# Altium schematic symbol library 4-Diode.SchLib: 48 symbols
Pins are listed as number, name and electrical type; pins without a type are passive.

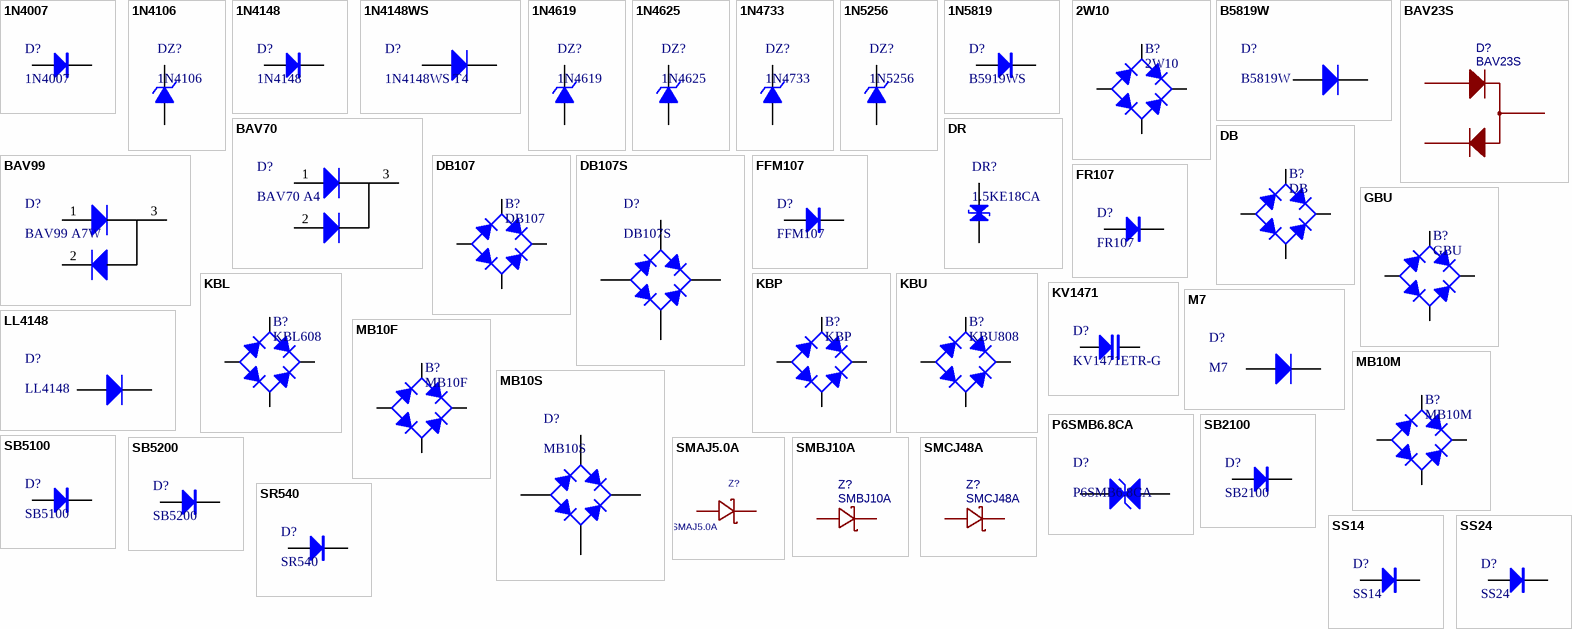
[diagram p0: symbols 1N4007 to SS24]

## 1N4007
designator D?
整流二极管; 版权归属: 源创客; BOM名称: 整流二极管; 学习资源: www.ooocke.com
footprint DO-41 (2.6*9.1mm(直径，脚距）)
footprint SOD-123 (2.7x1.6X1.1mm（长宽高，不包括引脚）)
footprint SMA (4.5x2.6*2.2mm（长宽高，不包括引脚）)
footprint DO-41V (2.6*3.5mm(直径，脚距）)
pins: 1 A, 2 K

## 1N4106
designator DZ?
12V/0.5W稳压管; 版权归属: 源创客; BOM名称: 12V/0.5W稳压管; 学习资源: www.ooocke.com
footprint DO-35 (1.8*6.8mm(直径，脚距）)
footprint DO-213AA (1.5*3.5mm(直径，脚距）)
footprint DO-35V (1.8*2.5mm(直径，脚距）)
pins: 1 A, 2 K

## 1N4148
designator D?
高速开关二极管; 版权归属: 源创客; BOM名称: 高速开关二极管; 学习资源: www.ooocke.com
footprint DO-35 (1.8*6.8mm(直径，脚距）)
footprint MINI_MELF (LL34) (1.5*3.4mm(直径，脚距）)
footprint SOD-323 (1.8x1.3X0.9mm（长宽高，不包括引脚）)
footprint DO-35V (1.8*2.5mm(直径，脚距）)
pins: 1 A, 2 K

## 1N4148WS
designator D?, comment 1N4148WS T4
二极管; ComponentLink1Description: 供应商链接; ComponentLink1URL: http://www.szlcsc.com/product/details_2485.html; Package: SOD-323; Supplier: LC; SuppliersPartNumber: C2128
footprint SOD-323
pins: 1 A, 2 K

## 1N4619
designator DZ?
3V/0.5W稳压管; 版权归属: 源创客; BOM名称: 3V/0.5W稳压管; 学习资源: www.ooocke.com
footprint DO-35 (1.8*6.8mm(直径，脚距）)
footprint MINI_MELF (LL34) (1.5*3.4mm(直径，脚距）)
footprint DO-35V (1.8*2.5mm(直径，脚距）)
pins: 1 A, 2 K

## 1N4625
designator DZ?
5.1V/0.5W稳压管; 版权归属: 源创客; BOM名称: 5.1V/0.5W稳压管; 学习资源: www.ooocke.com
footprint DO-35 (1.8*6.8mm(直径，脚距）)
footprint MINI_MELF (LL34) (1.5*3.4mm(直径，脚距）)
footprint DO-35V (1.8*2.5mm(直径，脚距）)
pins: 1 A, 2 K

## 1N4733
designator DZ?
5.1V/1W稳压管; 版权归属: 源创客; BOM名称: 5.1V/1W稳压管; 学习资源: www.ooocke.com
footprint DO-41 (2.6*9.1mm(直径，脚距）)
footprint MELF (LL41) (2.4*5.3mm(直径，脚距）)
footprint DO-41V (2.6*3.5mm(直径，脚距）)
footprint SMA (4.5x2.6*2.2mm（长宽高，不包括引脚）)
pins: 1 A, 2 K

## 1N5256
designator DZ?
30V/0.5W稳压管; 版权归属: 源创客; BOM名称: 30V/0.5W稳压管; 学习资源: www.ooocke.com
footprint DO-35 (1.8*6.8mm(直径，脚距）)
footprint DO-213AA (1.5*3.5mm(直径，脚距）)
footprint DO-35V (1.8*2.5mm(直径，脚距）)
pins: 1 A, 2 K

## 1N5819
designator D?, comment B5919WS
肖特基二极管; 版权归属: 源创客; 属性: 40V/2A; BOM名称: 肖特基二极管; 学习资源: www.ooocke.com
footprint SOD-323 (1.8x1.3X0.9mm（长宽高，不包括引脚）)
pins: 1 A, 2 K

## 2W10
designator B?
1KV/2A整流桥; 版权归属: 源创客; BOM名称: 1KV/2A整流桥; 学习资源: www.ooocke.com
footprint RB-20 (8.9*3.5mm(直径，高))
pins: AC1, AC2, DC+, DC-

## B5819W
designator D?
肖特基二极管; ComponentLink1Description: 供应商链接; ComponentLink1URL: http://www.szlcsc.com/product/details_9093.html; Package: SOD-123; Supplier: LC; SuppliersPartNumber: C8598
footprint SOD-123
pins: 1 A, 2 K

## BAV23S
designator D?
开关二极管; BOM_Manufacturer: CJ; SMT Type: Extend; BOM_Supplier: LCSC; BOM_Manufacturer Part: BAV23S; image: //image.lceda.cn/szlcsc/C44345.jpg; BOM_Supplier Part: C44345; BOM_LCSC Assembly: Yes; spicePre: D
footprint SOT-23
pins: 1, 2, 3

## BAV70
designator D?, comment BAV70 A4
开关二极管; ComponentLink1Description: 供应商链接; ComponentLink1URL: http://www.szlcsc.com/product/details_70091.html; Package: SOT-23; Supplier: LC; SuppliersPartNumber: C68978; 简写: A4
footprint SOT-23(SOT-23-3)
pins: 1 A, 2 A, 3 K

## BAV99
designator D?, comment BAV99 A7W
开关二极管; ComponentLink1Description: 供应商链接; ComponentLink1URL: http://www.szlcsc.com/product/details_2877.html; Package: SOT-23; Supplier: LC; SuppliersPartNumber: C2500; 简写: A7W
footprint SOT-23(SOT-23-3)
pins: 1 A, 2 A, 3 K

## DB
designator B?
整流桥; 版权归属: 源创客; BOM名称: 整流桥; 学习资源: www.ooocke.com
footprint DB (8.5*7.6*3mm(长宽高))
footprint BR3 (18*7.1mm(宽高))
footprint BR8 (16*8mm(宽高))
footprint DBS (8.5*10.1*3mm(长宽高))
footprint GBP (14.2*2.9*10.5mm(长宽高))
footprint GBU (整流桥，脚距：5mm/200mil)
footprint KBP (14.7*4.8*12.2mm(长宽高))
footprint MBF (4.7*7*1.5mm(长宽高))
footprint MBM (4.8*5.2*2.5mm(长宽高))
footprint MBS (4.1*6.8*2.5mm(长宽高))
footprint RB-15 (8.9*3.5mm(直径，高))
footprint RB-20 (8.9*3.5mm(直径，高))
footprint WOM (8.1*5.1mm(直径，高))
pins: AC1, AC2, DC+, DC-

## DB107
designator B?
700V/1A整流桥; 版权归属: 源创客; BOM名称: 700V/1A整流桥; 学习资源: www.ooocke.com
footprint DB (8.5*7.6*3mm(长宽高))
pins: AC1, AC2, DC+, DC-

## DB107S
designator D?
700V/1A整流桥; ComponentLink1Description: 供应商链接; ComponentLink1URL: http://www.szlcsc.com/product/details_5809.html; Package: DBS; Supplier: LC; SuppliersPartNumber: C5377
footprint DBS
pins: 1 C, 2 K, 3 C, 4 A

## DR
designator DR?, comment 1.5KE18CA
瞬态电压抑制二极管; 版权归属: 源创客; BOM名称: 瞬态电压抑制二极管; 学习资源: www.ooocke.com
footprint DO-15 (3.3*10.3mm(直径，脚距）)
pins: 1 A, 2 K

## FFM107
designator D?
快恢复整流二极管; BOM名称: 快恢复二极管; 版权归属: 源创客; 学习资源: www.ooocke.com
footprint SOD-123F
pins: 1 A, 2 K

## FR107
designator D?
快恢复整流二极管; BOM名称: 快恢复二极管; 版权归属: 源创客; 属性: 700V/1A; 学习资源: www.ooocke.com
footprint DO-41 (2.6*9.1mm(直径，脚距）)
footprint DO-41V (2.6*3.5mm(直径，脚距）)
pins: 1 A, 2 K

## GBU
designator B?
1KV/10A整流桥; 版权归属: 源创客; BOM名称: 1KV/10A整流桥; 学习资源: www.ooocke.com
footprint GBU (整流桥，脚距：5mm/200mil)
pins: AC1, AC2, DC+, DC-

## KBL
designator B?, comment KBL608
600V/8A整流桥; BOM名称: 1KV/2A整流桥; 版权归属: 源创客; 学习资源: www.ooocke.com
footprint KBL (19*6.25*15.7mm(长宽高))
pins: AC1, AC2, DC+, DC-

## KBP
designator B?
1KV/2A整流桥; 版权归属: 源创客; BOM名称: 1KV/2A整流桥; 学习资源: www.ooocke.com
footprint KBP (14.7*4.8*12.2mm(长宽高))
pins: AC1, AC2, DC+, DC-

## KBU
designator B?, comment KBU808
800V/8A整流桥; BOM名称: 1KV/2A整流桥; 版权归属: 源创客; 学习资源: www.ooocke.com
footprint KBU (23*6.6*19.1mm(长宽高))
pins: AC1, AC2, DC+, DC-

## KV1471
designator D?, comment KV1471ETR-G
变容二极管; 版权归属: 源创客; BOM名称: 变容二极管; 学习资源: www.ooocke.com
footprint SOD-323 (1.8x1.3X0.9mm（长宽高，不包括引脚）)
pins: 1 A, 2 K

## LL4148
designator D?
开关二极管; ComponentLink1Description: 供应商链接; ComponentLink1URL: http://www.szlcsc.com/product/details_10338.html; Package: LL-34; Supplier: LC; SuppliersPartNumber: C9808
footprint LL-34
pins: 1 A, 2 K

## M7
designator D?
二极管; Notepad: 1N4007 4007 编号C2464 已经停售, 使用新物料编号C95872; ComponentLink1Description: 供应商链接; ComponentLink1URL: http://www.szlcsc.com/product/details_2841.html; Package: SMA(DO-214AC); Supplier: LC; SuppliersPartNumber: C95872
footprint SMA(DO-214AC)_S1
pins: 1 A, 2 K

## MB10F
designator B?
1KV/0.8A整流桥; 版权归属: 源创客; BOM名称: 1KV/0.8A整流桥; 学习资源: www.ooocke.com
footprint MBF (4.7*7*1.5mm(长宽高))
pins: AC1, AC2, DC+, DC-

## MB10M
designator B?
1KV/0.8A整流桥; 版权归属: 源创客; BOM名称: 1KV/0.8A整流桥; 学习资源: www.ooocke.com
footprint MBM (4.8*5.2*2.5mm(长宽高))
pins: AC1, AC2, DC+, DC-

## MB10S
designator D?
1KV/0.8A整流桥; ComponentLink1Description: 供应商链接; ComponentLink1URL: http://www.szlcsc.com/product/details_2865.html; Package: MBS; Supplier: LC; SuppliersPartNumber: C2488
footprint MBS
pins: 1 C, 2 K, 3 C, 4 A

## P6SMB6.8CA
designator D?
TVS; ComponentLink1Description: 供应商链接; ComponentLink1URL: http://www.szlcsc.com/product/details_79530.html; Package: SMB/DO-214AA; Supplier: LC; SuppliersPartNumber: C78395
footprint SMB(DO-214AA)_S1
pins: 1 A, 2 K

## SB2100
designator D?
肖特基二极管; BOM名称: 整流二极管; 版权归属: 源创客; 属性: 100V  2A; 学习资源: www.ooocke.com
footprint DO-15 (3.3*10.3mm(直径，脚距）)
footprint DO-15V (3.3*4mm(直径，脚距）)
pins: 1 A, 2 K

## SB5100
designator D?
肖特基二极管; BOM名称: 整流二极管; 版权归属: 源创客; 属性: 100V  5A; 学习资源: www.ooocke.com
footprint DO-201AD (5.2*15.2mm(直径，脚距）)
footprint DO-201ADV (5.2*5.5mm(直径，脚距）)
pins: 1 A, 2 K

## SB5200
designator D?
肖特基二极管; BOM名称: 整流二极管; 版权归属: 源创客; 属性: 200V  5A; 学习资源: www.ooocke.com
footprint DO-201AD (5.2*15.2mm(直径，脚距）)
footprint DO-201ADV (5.2*5.5mm(直径，脚距）)
pins: 1 A, 2 K

## SMAJ5.0A
designator Z?
TVS二极管; PCB DECAL: DO-214; URL: https://item.szlcsc.com/84493.html; 商品编号: C83329
footprint SMA (4.5x2.6*2.2mm（长宽高，不包括引脚）)
pins: 1 A, 2 K

## SMBJ10A
designator Z?
TVS二极管; BOM_Manufacturer: Littelfuse; Contributor: LCSC; SMT Type: Extend; BOM_Supplier: LCSC; BOM_Supplier Part: C151250; BOM_Manufacturer Part: SMBJ10A; BOM_LCSC Assembly: Yes; spicePre: D; Value: SMBJ10A; URL: https://item.szlcsc.com/162590.html
footprint SMB (4.7*3.9*2.2mm(长宽高，不包括引脚）)
pins: 1 A, 2 K

## SMCJ48A
designator Z?
TVS二极管; BOM_Manufacturer: Littelfuse; Contributor: LCSC; SMT Type: Extend; BOM_Supplier: LCSC; BOM_Supplier Part: C151286; BOM_Manufacturer Part: SMCJ48A; BOM_LCSC Assembly: Yes; spicePre: D; URL: https://item.szlcsc.com/162626.html
footprint SMC (7.1x5.9*2.3mm（长宽高，不包括引脚）)
pins: 1 A, 2 K

## SR540
designator D?
肖特基二极管; BOM名称: 整流二极管; 版权归属: 源创客; 属性: 40V  5A; 学习资源: www.ooocke.com
footprint DO-27 (5.2*14.9mm(直径，脚距）)
footprint DO-27V (5.2*5.5mm(直径，脚距）)
pins: 1 A, 2 K

## SS14
designator D?
肖特基二极管; 版权归属: 源创客; 属性: 40V/1A; BOM名称: 肖特基二极管; 学习资源: www.ooocke.com
footprint SMA (4.5x2.6*2.2mm（长宽高，不包括引脚）)
pins: 1 A, 2 K

## SS24
designator D?
肖特基二极管; 版权归属: 源创客; 属性: 40V/2A; BOM名称: 肖特基二极管; 学习资源: www.ooocke.com
footprint SMB (4.7*3.9*2.2mm(长宽高，不包括引脚）)
pins: 1 A, 2 K

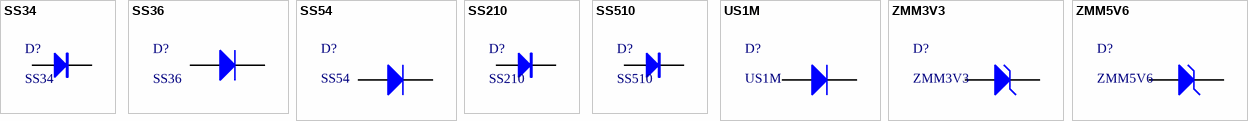
[diagram p1: symbols SS34 to ZMM5V6]

## SS34
designator D?
肖特基二极管; 版权归属: 源创客; 属性: 40V/3A; BOM名称: 肖特基二极管; 学习资源: www.ooocke.com
footprint SMC (7.1x5.9*2.3mm（长宽高，不包括引脚）)
pins: 1 A, 2 K

## SS36
designator D?
二极管; ComponentLink1Description: 供应商链接; ComponentLink1URL: http://www.szlcsc.com/product/details_36698.html; Package: SMC(DO-214AB); Supplier: LC; SuppliersPartNumber: C35722
footprint SMC (7.1x5.9*2.3mm（长宽高，不包括引脚）)
footprint SMB (4.7*3.9*2.2mm(长宽高，不包括引脚）)
footprint SMA (4.5x2.6*2.2mm（长宽高，不包括引脚）)
pins: 1 A, 2 K

## SS54
designator D?
二极管; ComponentLink1Description: 供应商链接; ComponentLink1URL: http://www.szlcsc.com/product/details_23178.html; Package: SMA(DO-214AC); Supplier: LC; SuppliersPartNumber: C22452
footprint SMA(DO-214AC)_S1
pins: 1 A, 2 K

## SS210
designator D?
肖特基二极管; 版权归属: 源创客; BOM名称: 肖特基二极管; 学习资源: www.ooocke.com
footprint SMA (4.5x2.6*2.2mm（长宽高，不包括引脚）)
pins: 1 A, 2 K

## SS510
designator D?
肖特基二极管; 版权归属: 源创客; 属性: 100V/5A; BOM名称: 肖特基二极管; 学习资源: www.ooocke.com
footprint SMB (4.7*3.9*2.2mm(长宽高，不包括引脚）)
pins: 1 A, 2 K

## US1M
designator D?
二极管; ComponentLink1Description: 供应商链接; ComponentLink1URL: http://www.szlcsc.com/product/details_5885.html; Package: SMA(DO-214AC); Supplier: LC; SuppliersPartNumber: C5441
footprint SMA(DO-214AC)_S1
pins: 1 A, 2 K

## ZMM3V3
designator D?
稳压二极管; ComponentLink1Description: 供应商链接; ComponentLink1URL: http://www.szlcsc.com/product/details_8535.html; Package: LL-34; Supplier: LC; SuppliersPartNumber: C8056
footprint LL-34
pins: 1 A, 2 K

## ZMM5V6
designator D?
稳压二极管; ComponentLink1Description: 供应商链接; ComponentLink1URL: http://www.szlcsc.com/product/details_8541.html; Package: LL-34; Supplier: LC; SuppliersPartNumber: C8062
footprint LL-34
pins: 1 A, 2 K